# Altium footprint library 10A_Fuse.PcbLib: 1 footprints
Each footprint in its own frame and in the unit in brackets; x right, y up, seen from the top. Pads: shape width x height; smd on the part's side, far side on the other; paste and mask are expansions set on the pad; w line width, h text height; cw(c..) or ccw(c..) is an arc to the next point about the centre after c.
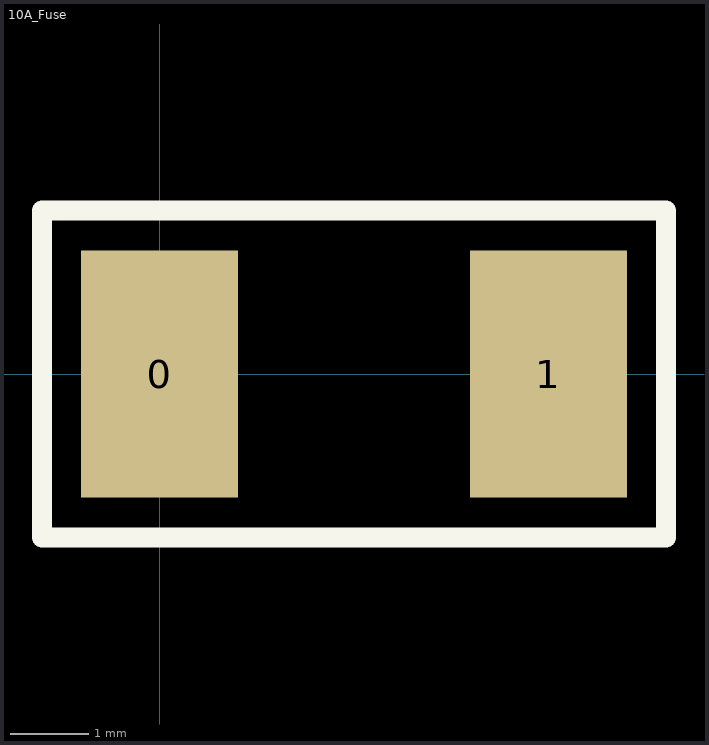
[diagram p0: the footprint, top view; thin cyan lines are the x and y axes]

## 10A_Fuse [mm]
pads (2):
  rect 2x3.15 smd mask+0.508: 0(0,0) 1(4.953,0)
Top Overlay:
  lines w0.254: -1.499,-2.083 -1.499,2.083 6.452,2.083 6.452,-2.083 -1.499,-2.083